# Altium schematic symbol library SnapEDAsch.SchLib: 1 symbol
Pins are listed as number, name and electrical type; pins without a type are passive.

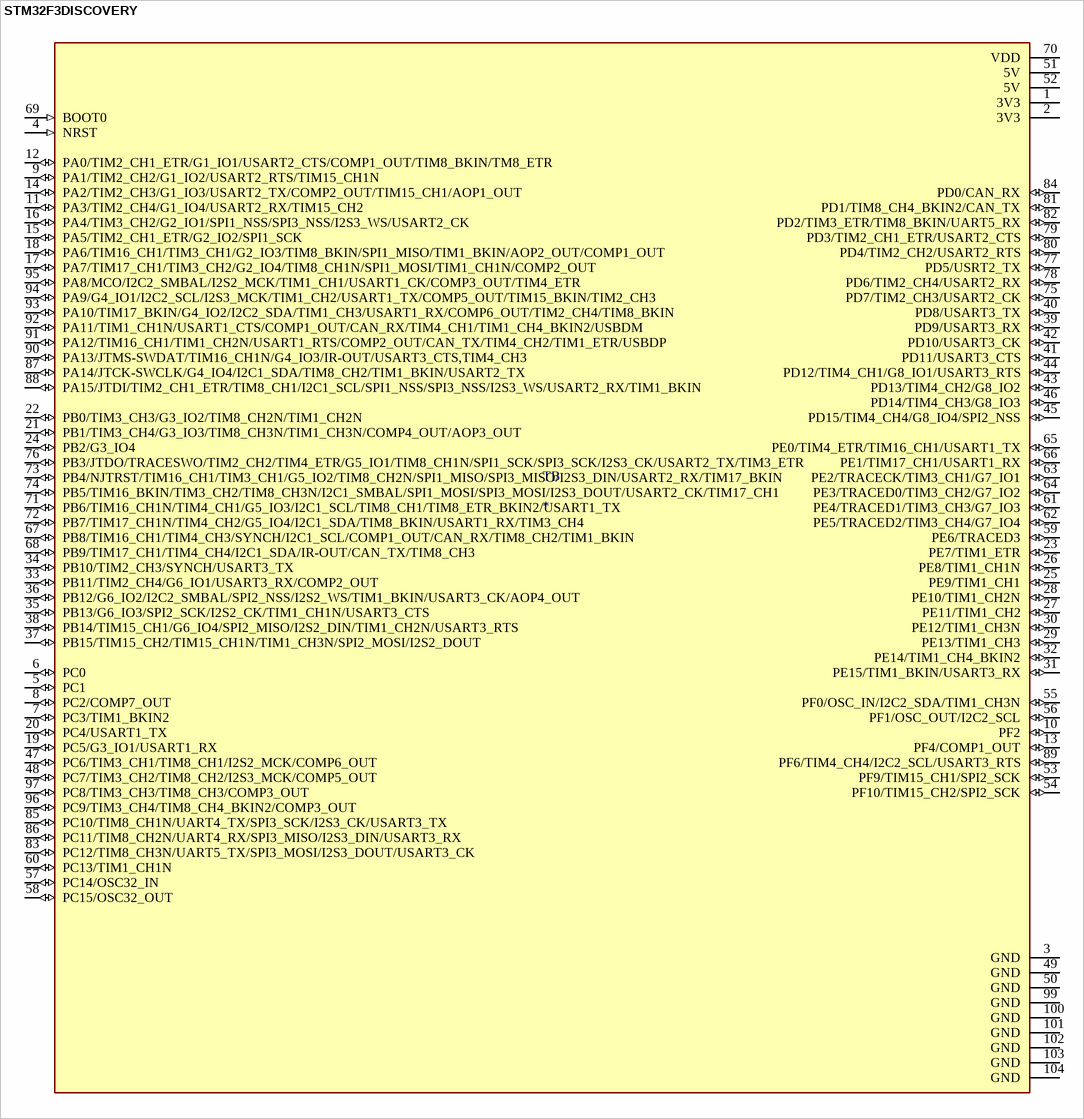
[diagram p0: symbol STM32F3DISCOVERY]

## STM32F3DISCOVERY
designator TB
STM32F303VCT6 Discovery STM32F3 ARMÂ® CortexÂ®-M4 MCU 32-Bit Embedded Evaluation Board; MF: STMicroelectronics; MP: STM32F3DISCOVERY; Package: LQFP-100 STMicroelectronics; Value: *; Availability: Unavailable; SnapEDA_Link: https://www.snapeda.com/parts/STM32F3DISCOVERY/STMicroelectronics/view-part/10815/?ref=snap; Price: None
footprint SHIELD_STM32F3DISCOVERY
pins: 1 3V3 (power), 2 3V3 (power), 3 GND (power), 4 NRST (in), 5 PC1 (io), 6 PC0 (io), 7 PC3/TIM1_BKIN2 (io), 8 PC2/COMP7_OUT (io), 9 PA1/TIM2_CH2/G1_IO2/USART2_RTS/TIM15_CH1N (io), 10 PF2 (io), 11 PA3/TIM2_CH4/G1_IO4/USART2_RX/TIM15_CH2 (io), 12 PA0/TIM2_CH1_ETR/G1_IO1/USART2_CTS/COMP1_OUT/TIM8_BKIN/TM8_ETR (io), 13 PF4/COMP1_OUT (io), 14 PA2/TIM2_CH3/G1_IO3/USART2_TX/COMP2_OUT/TIM15_CH1/AOP1_OUT (io), 15 PA5/TIM2_CH1_ETR/G2_IO2/SPI1_SCK (io), 16 PA4/TIM3_CH2/G2_IO1/SPI1_NSS/SPI3_NSS/I2S3_WS/USART2_CK (io), 17 PA7/TIM17_CH1/TIM3_CH2/G2_IO4/TIM8_CH1N/SPI1_MOSI/TIM1_CH1N/COMP2_OUT (io), 18 PA6/TIM16_CH1/TIM3_CH1/G2_IO3/TIM8_BKIN/SPI1_MISO/TIM1_BKIN/AOP2_OUT/COMP1_OUT (io), 19 PC5/G3_IO1/USART1_RX (io), 20 PC4/USART1_TX (io), 21 PB1/TIM3_CH4/G3_IO3/TIM8_CH3N/TIM1_CH3N/COMP4_OUT/AOP3_OUT (io), 22 PB0/TIM3_CH3/G3_IO2/TIM8_CH2N/TIM1_CH2N (io), 23 PE7/TIM1_ETR (io), 24 PB2/G3_IO4 (io), 25 PE9/TIM1_CH1 (io), 26 PE8/TIM1_CH1N (io), 27 PE11/TIM1_CH2 (io), 28 PE10/TIM1_CH2N (io), 29 PE13/TIM1_CH3 (io), 30 PE12/TIM1_CH3N (io), 31 PE15/TIM1_BKIN/USART3_RX (io), 32 PE14/TIM1_CH4_BKIN2 (io), 33 PB11/TIM2_CH4/G6_IO1/USART3_RX/COMP2_OUT (io), 34 PB10/TIM2_CH3/SYNCH/USART3_TX (io), 35 PB13/G6_IO3/SPI2_SCK/I2S2_CK/TIM1_CH1N/USART3_CTS (io), 36 PB12/G6_IO2/I2C2_SMBAL/SPI2_NSS/I2S2_WS/TIM1_BKIN/USART3_CK/AOP4_OUT (io), 37 PB15/TIM15_CH2/TIM15_CH1N/TIM1_CH3N/SPI2_MOSI/I2S2_DOUT (io), 38 PB14/TIM15_CH1/G6_IO4/SPI2_MISO/I2S2_DIN/TIM1_CH2N/USART3_RTS (io), 39 PD9/USART3_RX (io), 40 PD8/USART3_TX (io), 41 PD11/USART3_CTS (io), 42 PD10/USART3_CK (io), 43 PD13/TIM4_CH2/G8_IO2 (io), 44 PD12/TIM4_CH1/G8_IO1/USART3_RTS (io), 45 PD15/TIM4_CH4/G8_IO4/SPI2_NSS (io), 46 PD14/TIM4_CH3/G8_IO3 (io), 47 PC6/TIM3_CH1/TIM8_CH1/I2S2_MCK/COMP6_OUT (io), 48 PC7/TIM3_CH2/TIM8_CH2/I2S3_MCK/COMP5_OUT (io), 49 GND (power), 50 GND (power), 51 5V (power), 52 5V (power), 53 PF9/TIM15_CH1/SPI2_SCK (io), 54 PF10/TIM15_CH2/SPI2_SCK (io), 55 PF0/OSC_IN/I2C2_SDA/TIM1_CH3N (io), 56 PF1/OSC_OUT/I2C2_SCL (io), 57 PC14/OSC32_IN (io), 58 PC15/OSC32_OUT (io), 59 PE6/TRACED3 (io), 60 PC13/TIM1_CH1N (io), 61 PE4/TRACED1/TIM3_CH3/G7_IO3 (io), 62 PE5/TRACED2/TIM3_CH4/G7_IO4 (io), 63 PE2/TRACECK/TIM3_CH1/G7_IO1 (io), 64 PE3/TRACED0/TIM3_CH2/G7_IO2 (io), 65 PE0/TIM4_ETR/TIM16_CH1/USART1_TX (io), 66 PE1/TIM17_CH1/USART1_RX (io), 67 PB8/TIM16_CH1/TIM4_CH3/SYNCH/I2C1_SCL/COMP1_OUT/CAN_RX/TIM8_CH2/TIM1_BKIN (io), 68 PB9/TIM17_CH1/TIM4_CH4/I2C1_SDA/IR-OUT/CAN_TX/TIM8_CH3 (io), 69 BOOT0 (in), 70 VDD (power), 71 PB6/TIM16_CH1N/TIM4_CH1/G5_IO3/I2C1_SCL/TIM8_CH1/TIM8_ETR_BKIN2/USART1_TX (io), 72 PB7/TIM17_CH1N/TIM4_CH2/G5_IO4/I2C1_SDA/TIM8_BKIN/USART1_RX/TIM3_CH4 (io), 73 PB4/NJTRST/TIM16_CH1/TIM3_CH1/G5_IO2/TIM8_CH2N/SPI1_MISO/SPI3_MISO/I2S3_DIN/USART2_RX/TIM17_BKIN (io), 74 PB5/TIM16_BKIN/TIM3_CH2/TIM8_CH3N/I2C1_SMBAL/SPI1_MOSI/SPI3_MOSI/I2S3_DOUT/USART2_CK/TIM17_CH1 (io), 75 PD7/TIM2_CH3/USART2_CK (io), 76 PB3/JTDO/TRACESWO/TIM2_CH2/TIM4_ETR/G5_IO1/TIM8_CH1N/SPI1_SCK/SPI3_SCK/I2S3_CK/USART2_TX/TIM3_ETR (io), 77 PD5/USRT2_TX (io), 78 PD6/TIM2_CH4/USART2_RX (io), 79 PD3/TIM2_CH1_ETR/USART2_CTS (io), 80 PD4/TIM2_CH2/USART2_RTS (io), 81 PD1/TIM8_CH4_BKIN2/CAN_TX (io), 82 PD2/TIM3_ETR/TIM8_BKIN/UART5_RX (io), 83 PC12/TIM8_CH3N/UART5_TX/SPI3_MOSI/I2S3_DOUT/USART3_CK (io), 84 PD0/CAN_RX (io), 85 PC10/TIM8_CH1N/UART4_TX/SPI3_SCK/I2S3_CK/USART3_TX (io), 86 PC11/TIM8_CH2N/UART4_RX/SPI3_MISO/I2S3_DIN/USART3_RX (io), 87 PA14/JTCK-SWCLK/G4_IO4/I2C1_SDA/TIM8_CH2/TIM1_BKIN/USART2_TX (io), 88 PA15/JTDI/TIM2_CH1_ETR/TIM8_CH1/I2C1_SCL/SPI1_NSS/SPI3_NSS/I2S3_WS/USART2_RX/TIM1_BKIN (io), 89 PF6/TIM4_CH4/I2C2_SCL/USART3_RTS (io), 90 PA13/JTMS-SWDAT/TIM16_CH1N/G4_IO3/IR-OUT/USART3_CTS,TIM4_CH3 (io), 91 PA12/TIM16_CH1/TIM1_CH2N/USART1_RTS/COMP2_OUT/CAN_TX/TIM4_CH2/TIM1_ETR/USBDP (io), 92 PA11/TIM1_CH1N/USART1_CTS/COMP1_OUT/CAN_RX/TIM4_CH1/TIM1_CH4_BKIN2/USBDM (io), 93 PA10/TIM17_BKIN/G4_IO2/I2C2_SDA/TIM1_CH3/USART1_RX/COMP6_OUT/TIM2_CH4/TIM8_BKIN (io), 94 PA9/G4_IO1/I2C2_SCL/I2S3_MCK/TIM1_CH2/USART1_TX/COMP5_OUT/TIM15_BKIN/TIM2_CH3 (io), 95 PA8/MCO/I2C2_SMBAL/I2S2_MCK/TIM1_CH1/USART1_CK/COMP3_OUT/TIM4_ETR (io), 96 PC9/TIM3_CH4/TIM8_CH4_BKIN2/COMP3_OUT (io), 97 PC8/TIM3_CH3/TIM8_CH3/COMP3_OUT (io), 99 GND (power), 100 GND (power), 101 GND (power), 102 GND (power), 103 GND (power), 104 GND (power)